# EAGLE library part RDM6300 (library RDM6300)
125kHz RFID Reader Module
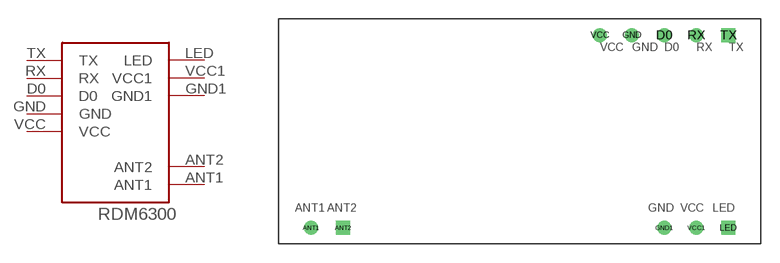
[diagram p0: symbol with the pads of RDM6300; footprint RDM6300]

Designator prefix RDM6300

## RDM6300 (AVAILABILITY: Unavailable; DESCRIPTION: RDM6300 125KHz cardreader mini-module is designed for reading code from 125KHz card compatible read-only tags and read/write card.; MF: ITEAD; MP: RDM6300; PACKAGE: Package; PRICE: None)  [RDM6300]
ANT1  ANT1
ANT2  ANT2
D0  D0
GND  GND
GND1  GND1
LED  LED
RX  RX
TX  TX
VCC  VCC
VCC1  VCC1

## Footprint RDM6300 (pad centres in mm)
drill 0.6: ANT1 -16.51,-7.62; D0 11.43,7.62; GND 8.89,7.62; GND1 11.43,-7.62; RX 13.97,7.62; VCC 6.35,7.62; VCC1 13.97,-7.62
drill 0.6 square: ANT2 -13.97,-7.62; LED 16.51,-7.62; TX 16.51,7.62